# Altium footprint library MEANWELL_IRM-15.PcbLib: 1 footprints
Each footprint in its own frame and in the unit in brackets; x right, y up, seen from the top. Pads: shape width x height; smd on the part's side, far side on the other; paste and mask are expansions set on the pad; w line width, h text height; cw(c..) or ccw(c..) is an arc to the next point about the centre after c.
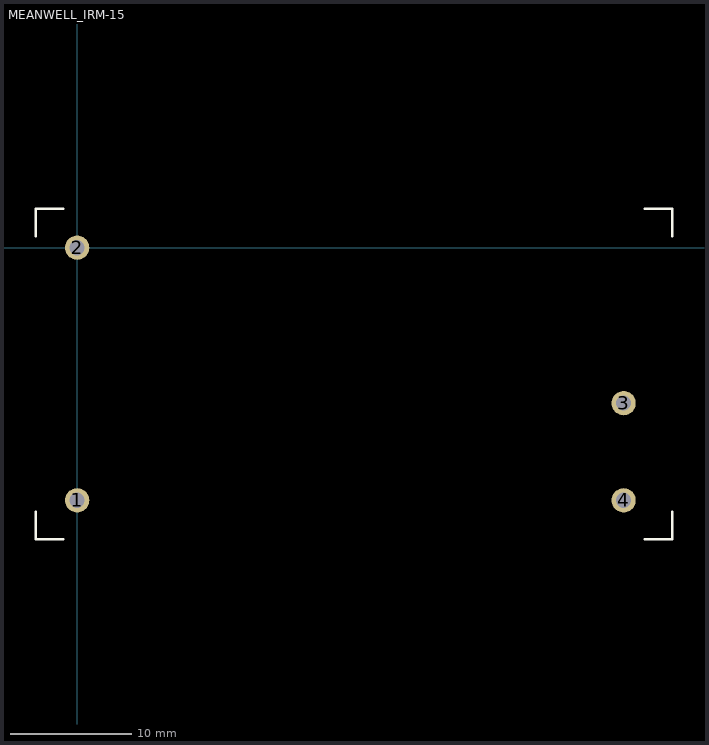
[diagram p0: the footprint, top view; thin cyan lines are the x and y axes]

## MEANWELL_IRM-15 [mm] "MEANWELL IRM-15 power module"
pads (4):
  round 2 hole 1.25: 1(0,-20.8) 2(0,0) 3(45,-12.8) 4(45,-20.8)
Top Overlay:
  lines w0.2: -3.4,-21.75 -3.4,-24 -1.15,-24 ; -3.4,0.95 -3.4,3.2 -1.15,3.2 ; 46.75,-24 49,-24 49,-21.75 ; 46.75,3.2 49,3.2 49,0.95
3D body: height 24, standoff 0, extent -3.4,-24 49,3.2